# Altium schematic symbol library SCH - ARM CORTEX - STM STM8AF528ATx.SchLib: 1 symbol
Pins are listed as number, name and electrical type; pins without a type are passive.

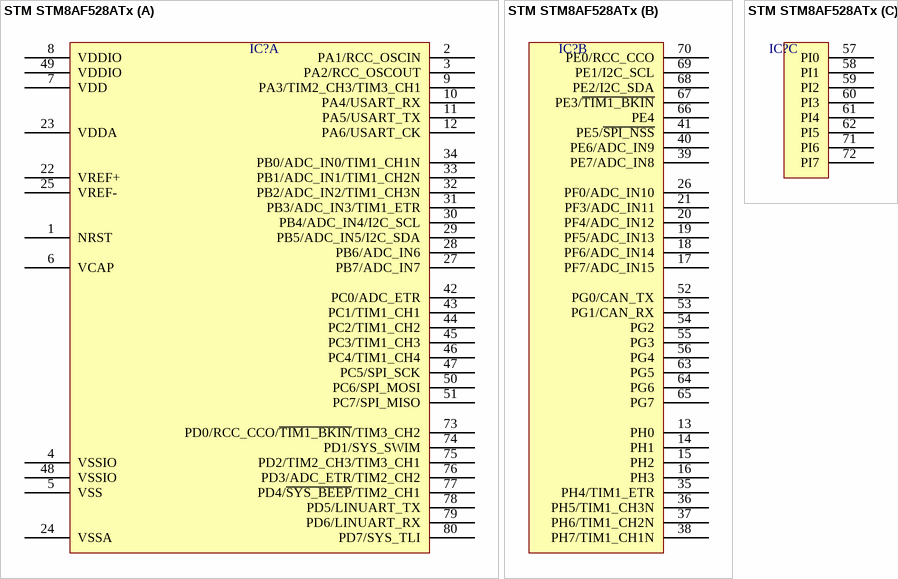
[diagram p0: symbol STM STM8AF528ATx]

## STM STM8AF528ATx
designator IC?  (value not drawn)
part A pins: 1 NRST, 2 PA1/RCC_OSCIN, 3 PA2/RCC_OSCOUT, 4 VSSIO, 5 VSS, 6 VCAP, 7 VDD, 8 VDDIO, 9 PA3/TIM2_CH3/TIM3_CH1, 10 PA4/USART_RX, 11 PA5/USART_TX, 12 PA6/USART_CK, 22 VREF+, 23 VDDA, 24 VSSA, 25 VREF-, 27 PB7/ADC_IN7, 28 PB6/ADC_IN6, 29 PB5/ADC_IN5/I2C_SDA, 30 PB4/ADC_IN4/I2C_SCL, 31 PB3/ADC_IN3/TIM1_ETR, 32 PB2/ADC_IN2/TIM1_CH3N, 33 PB1/ADC_IN1/TIM1_CH2N, 34 PB0/ADC_IN0/TIM1_CH1N, 42 PC0/ADC_ETR, 43 PC1/TIM1_CH1, 44 PC2/TIM1_CH2, 45 PC3/TIM1_CH3, 46 PC4/TIM1_CH4, 47 PC5/SPI_SCK, 48 VSSIO, 49 VDDIO, 50 PC6/SPI_MOSI, 51 PC7/SPI_MISO, 73 PD0/RCC_CCO/~{TIM1_BKIN}/TIM3_CH2, 74 PD1/SYS_SWIM, 75 PD2/TIM2_CH3/TIM3_CH1, 76 PD3/ADC_ETR/TIM2_CH2, 77 PD4/~{SYS_BEEP}/TIM2_CH1, 78 PD5/LINUART_TX, 79 PD6/LINUART_RX, 80 PD7/SYS_TLI
part B pins: 13 PH0, 14 PH1, 15 PH2, 16 PH3, 17 PF7/ADC_IN15, 18 PF6/ADC_IN14, 19 PF5/ADC_IN13, 20 PF4/ADC_IN12, 21 PF3/ADC_IN11, 26 PF0/ADC_IN10, 35 PH4/TIM1_ETR, 36 PH5/TIM1_CH3N, 37 PH6/TIM1_CH2N, 38 PH7/TIM1_CH1N, 39 PE7/ADC_IN8, 40 PE6/ADC_IN9, 41 PE5/~{SPI_NSS}, 52 PG0/CAN_TX, 53 PG1/CAN_RX, 54 PG2, 55 PG3, 56 PG4, 63 PG5, 64 PG6, 65 PG7, 66 PE4, 67 PE3/~{TIM1_BKIN}, 68 PE2/I2C_SDA, 69 PE1/I2C_SCL, 70 PE0/RCC_CCO
part C pins: 57 PI0, 58 PI1, 59 PI2, 60 PI3, 61 PI4, 62 PI5, 71 PI6, 72 PI7